# Altium integrated library FFC2A32-12-T.IntLib: 1 symbol
Pins are listed as number, name and electrical type; pins without a type are passive.

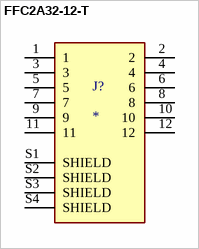
[diagram p0: symbol FFC2A32-12-T]

## FFC2A32-12-T
designator J?
12 Position FFC, FPC Connector Contacts, Vertical - 1 Sided 0.020 (0.50mm) Surface Mount; MF: Global Connector Technology; MP: FFC2A32-12-T; SnapEDA_Link: https://www.snapeda.com/parts/FFC2A32-12-T/Global+Connector+Technology/view-part/?ref=snap; Package: None; Value: *; Check_prices: https://www.snapeda.com/parts/FFC2A32-12-T/Global+Connector+Technology/view-part/?ref=eda
footprint GCT_FFC2A32-12-T
pins: 1, 2, 3, 4, 5, 6, 7, 8, 9, 10, 11, 12, S1 SHIELD, S2 SHIELD, S3 SHIELD, S4 SHIELD